# Altium schematic symbol library ProtoWatch_SchLib.SchLib: 6 symbols
Pins are listed as number, name and electrical type; pins without a type are passive.

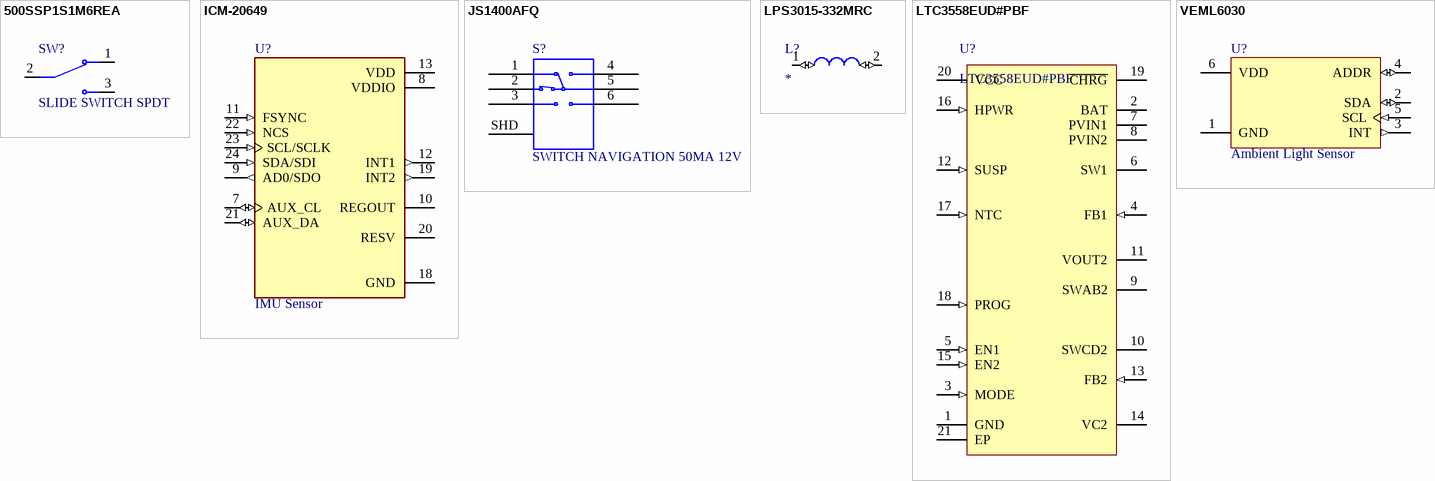
[diagram p0: symbols 500SSP1S1M6REA to VEML6030]

## 500SSP1S1M6REA
designator SW?, comment SLIDE SWITCH SPDT
Slide Switch SPDT Through Hole, Right Angle 0.4VA 20V; MPN: 500SSP1S1M6REA; Manufacturer Part Number 1: 500SSP1S1M6REA
footprint 500SSP1S1M6REA (Slide Switch SPDT Through Hole, R/A)
pins: 1 NC, 2 COM, 3 NO

## ICM-20649
designator U?, comment IMU Sensor
Accelerometer, Gyroscope, Temperature, 6 Axis Sensor IÂ²C, SPI Output; MF: TDK InvenSense; MP: ICM-20649; Package: QFN-24 InvenSense; Price: None; Availability: Unavailable; SnapEDA_Link: https://www.snapeda.com/parts/ICM-20649/TDK%20InvenSense/view-part/557276/?ref=snap; Value: *; Manufacturer Part Number 1: ICM-20649
footprint ICM-20649 (QFN40P300X300X95-24N)
pins: 7 AUX_CL (io), 8 VDDIO (power), 9 AD0/SDO (out), 10 REGOUT, 11 FSYNC (in), 12 INT1 (out), 13 VDD (power), 18 GND (power), 19 INT2 (out), 20 RESV, 21 AUX_DA (io), 22 NCS (in), 23 SCL/SCLK (in), 24 SDA/SDI (in)

## JS1400AFQ
designator S?, comment SWITCH NAVIGATION 50MA 12V
Navigation Switch, 2 - Axis Digital (Mechanical Switch) Output; MF: E-Switch; MP: JS1400AFQ; Digi-Key_Part_Number: EG5857-ND; Value: *; Package: None; manufacturer Part Number 1: JS1400AFQ
footprint SW_JS1400AFQ (SWITCH NAVIGATION 50MA 12V)
pins: 1, 2, 3, 4, 5, 6, SHD SHIELD

## LPS3015-332MRC
designator L?
Power inductor, shielded, 20% tol, SMT, RoHS, lead-free, halogen-free; MP: LPS3015-332MRC; MF: Coilcraft; SnapEDA_Link: https://www.snapeda.com/parts/LPS3015-104MRB/Coilcraft/view-part/1499066/?ref=snap; Price: None; Availability: Unavailable; Value: *; Package: None
footprint LPS3015
pins: 1 (io), 2 (io)

## LTC3558EUD#PBF
designator U?
Linear USB Battery Charger with Buck and Buck-Boost Regulator, 4.3 to 5.5 V Vin, 20-pin QFN (UD-20), -40 to 85 degC, Pb-Free; Manufacturer: Linear Technology; Number of Cells: 1; Vin Max(V): 5.5; Vin Min(V): 4.3; Number of Outputs: 2; Mounting Technology: Surface Mount; PartNumber: LTC3558EUD#PBF; PackageReference: UD-20; ComponentLink3URL: http://cds.linear.com/docs/en/packaging/QFN_20_05-08-1720.pdf; ComponentLink2Description: Datasheet; ComponentLink1URL: http://www.linear.com/; RoHS: TRUE; ComponentLink3Description: Package Specification; ComponentLink1Description: Manufacturer URL; PackageDescription: 20-Pin Plastic QFN, Body 3 x 3 mm, Pitch 0.4 mm; ComponentLink2URL: http://cds.linear.com/docs/en/datasheet/3558.pdf; PackageVersion: Rev. A, 06/2010
footprint LT-UD-20_L (QFN, 20-Leads, Body 3.1x3.1mm, Pitch 0.4mm, Thermal Pad 1.65x1.65mm, IPC High Density)
footprint LT-UD-20_N (QFN, 20-Leads, Body 3.1x3.1mm, Pitch 0.4mm, Thermal Pad 1.65x1.65mm, IPC Medium Density)
footprint LT-UD-20_M (QFN, 20-Leads, Body 3.1x3.1mm, Pitch 0.4mm, Thermal Pad 1.65x1.65mm, IPC Low Density)
pins: 1 GND (power) "Ground. Connect to Exposed Pad (Pin 21).", 2 BAT "Charge Current Output. Provides charge current to the battery and regulates final float voltage to 4.2 V.", 3 MODE (in) "MODE Pin for Switching Regulators. When held high, both regulators operate in Burst Mode Operation. When held low, the buck regulator operates in pulse skip mode and the buck-boost regulator operates in PWM mode. This pin is (See Datasheet)", 4 FB1 (in) "Buck Regulator Feedback Voltage Pin. Receives feedback by a resistor divider connected across the output.", 5 EN1 (in) "Enable Input Pin for the Buck Regulator. This pin is a high impedance input; do not float. Active high.", 6 SW1 (power) "Buck Regulator Switching Node. External inductor connects to this node.", 7 PVIN1 "Input Supply Pin for Buck Regulator. Connect to BAT and PVIN2. A single 10 uF input decoupling capacitor to GND is required.", 8 PVIN2 "Input Supply Pin for Buck-Boost Regulator. Connect to BAT and PVIN1. A single 10 uF input decoupling capacitor to GND is required.", 9 SWAB2 "Switch Node for Buck-Boost Regulator Connected to the Internal Power Switches A and B. External inductor connects between this node and SWCD2.", 10 SWCD2 "Switch Node for Buck-Boost Regulator Connected to the Internal Power Switches C and D. External inductor connects between this node and SWAB2.", 11 VOUT2 "Regulated Output Voltage for Buck-Boost Regulator.", 12 SUSP (in) "Suspend Battery Charging Operation. A voltage greater than 1.2 V on this pin puts the battery charger in suspend mode, disables the charger and resets the termination timer. A weak pull-down current is internally applied to (See Datasheet)", 13 FB2 (in) "Buck-Boost Regulator Feedback Voltage Pin. Receives feedback by a resistor divider connected across the output.", 14 VC2 "Output of the Error Amplifier and Voltage Compensation Node for the Buck-Boost Regulator. External Type I or Type III compensation (to FB2) connects to this pin.", 15 EN2 (in) "Enable Input Pin for the Buck-Boost Regulator. This pin is a high impedance input; do not float. Active high.", 16 HPWR (in) "High Current Battery Charging Enabled. A voltage greater than 1.2 V at this pin programs the BAT pin current at 100% of the maximum programmed charge current. A voltage less than 0.4 V sets the BAT pin current to 20% of the (See Datasheet)", 17 NTC (in) "Input to the NTC Thermistor Monitoring Circuit. The NTC pin connects to a negative temperature coefficient thermistor which is typically co-packaged with the battery pack to determine if the battery is too hot or too cold to (See Datasheet)", 18 PROG (in) "Charge Current Program and Charge Current Monitor Pin. Charge current is programmed by connecting a resistor from PROG to ground. When charging in constant current mode, the PROG pin servos to 1 V if the HPWR pin is pulled (See Datasheet)", 19 ~{CHRG} "Open-Drain Charge Status Output. The C\H\R\G pin indicates the status of the battery charger. Four possible states are represented by C\H\R\G charging, not charging (i.e., the charge current is less than one-tenth of the (See Datasheet)", 20 VCC "Battery Charger Input. A 1 uF decoupling capacitor to GND is recommended.", 21 EP (power) "Ground. The Exposed Pad must be soldered to PCB ground to provide electrical contact and rated thermal performance."

## VEML6030
designator U?, comment Ambient Light Sensor
Optical Sensor Ambient 550nm IÂ²C 6-SMD, No Lead; MF: Vishay; MP: VEML6030; Value: *; Price: None; Package: SMD-6 Vishay; SnapEDA_Link: https://www.snapeda.com/parts/VEML6030/Vishay%20Semiconductor%20Opto%20Division/view-part/493148/?ref=snap; Availability: Unavailable; Manufacturer Part Number 1: VEML6030
footprint VISHAY_VEML6030_2X2X0.87
pins: 1 GND (power), 2 SDA (io), 3 INT (out), 4 ADDR (io), 5 SCL (in), 6 VDD (power)